# Altium integrated library Texas Instruments Power Management PWM Controller.IntLib: 1227 symbols (part 34 of 49)
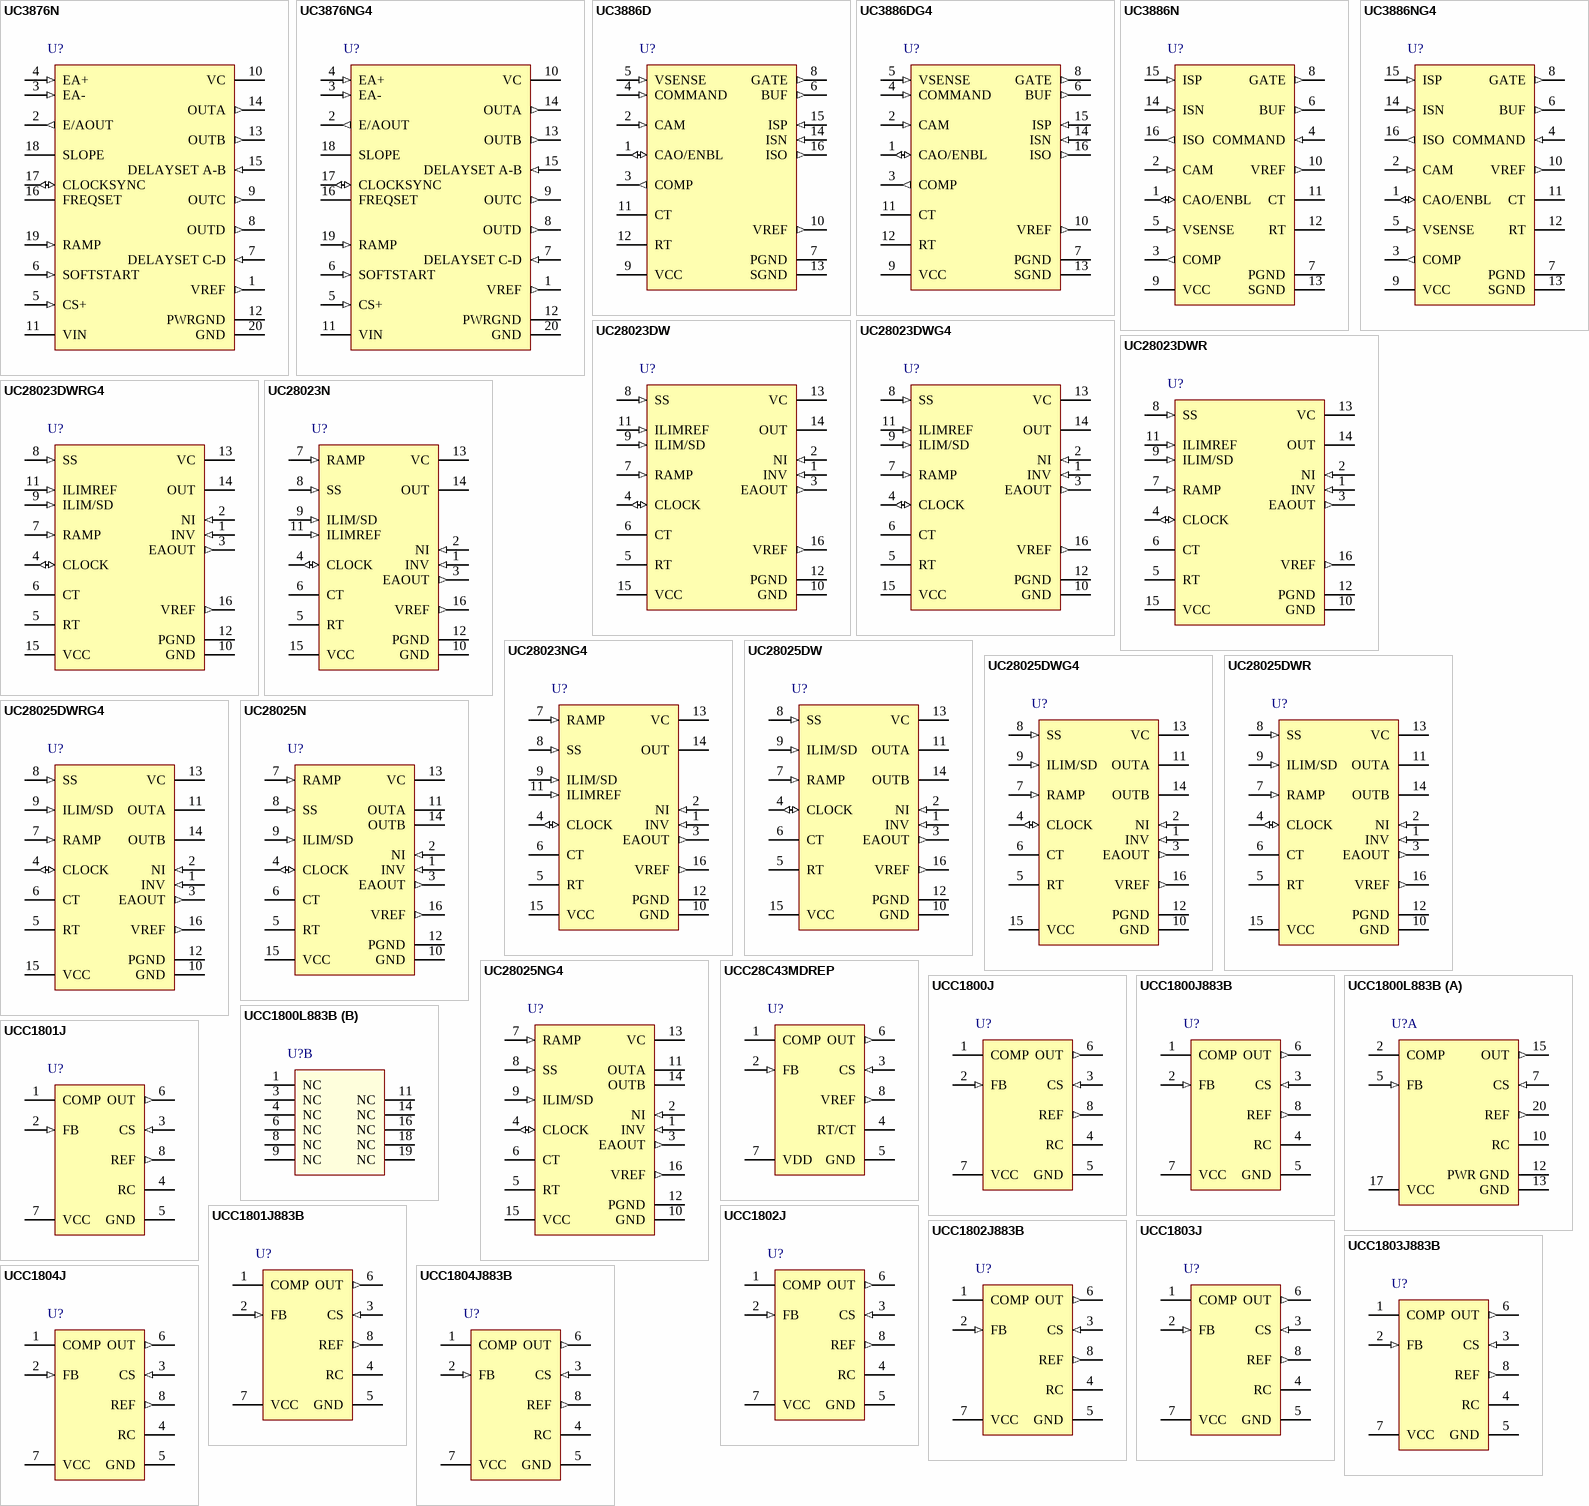
[diagram p76: symbols UC3876N to UCC1804J883B]

## UC3886DG4
designator U?
Average PWM Controller Ic with Current Control, 95 % Duty Cycle, 0 to +70 degC, 16-pin SOIC (D), Green (RoHS & no Sb/Br); PartNumber: UC3886DG4; Manufacturer: Texas Instruments; Duty Cycle(Max)(%): 95; Frequency(Max)(kHz): 400; Rating: Catalog; Regulated Outputs(#): 1; Topology: Boost, Buck, Flyback, Forward; DatasheetVersion: SLUS231; PackageVersion: revM, Jun-2011; PackageReference: D16; PackageDescription: 16-Pin Plastic Small Outline Integrated Circuit, 9.9 x 3.9 mm, Pitch 1.27 mm Pitch; Supplier 1: Digi-Key; Supplier Part Number 1: UC3886DG4-ND; Supplier 2: Newark; Supplier Part Number 2: 70K6033; Supplier 3: Mouser; Supplier Part Number 3: 595-UC3886DG4; Control Method: Current; Eco-Plan: Green (RoHS & no Sb/Br); SubFamily: PWM Controller; UVLO Thresholds On/Off(V): 10.3/10; Mounting Technology: Surface Mount; Code_JEDEC: MS-012AC; ComponentLink1Description: Datasheet; ComponentLink1URL: http://www.ti.com/general/docs/lit/getliterature.tsp?genericPartNumber=UC3886&fileType=pdf
footprint D16_N (SOIC, 16-Leads, Body 9.9x3.9mm, Pitch 1.27mm, IPC Medium Density)
footprint D16_L (SOIC, 16-Leads, Body 9.9x3.9mm, Pitch 1.27mm, IPC High Density)
footprint D16_M (SOIC, 16-Leads, Body 9.9x3.9mm, Pitch 1.27mm, IPC Low Density)
pins: 1 CAO/ENBL (io) "(Current Amplifier Output/Chip Enable) The current loop compensation network is connected between CAO/ENBL and CAM, the inverting input of the current amplifier. The voltage at CAO/ENBL is the input to the PWM comparator and (See Datasheet)", 2 CAM (in) "(Current Amplifier Minus Input) The average load current feedback from ISO is typically applied through a resistor here.", 3 COMP (out) "(Compensation, Voltage Amplifier Output) The system voltage compensation network is applied between COMP and VSENSE. The voltage at COMP is clamped to prevent it from going more than 1V above the COMMAND voltage. This is (See Datasheet)", 4 COMMAND (in) "(Voltage Amplifier Non-Inverting Input) This input to the voltage amplifier is connected to a command voltage, such as the output of a DAC. This voltage sets the switching regulator output voltage.", 5 VSENSE (in) "(Voltage Sense Input) This input is connected to COMP through a feedback network and to the power supply output through a resistor or a divider network.", 6 BUF (out) "(Buffer Output) The voltage on COMMAND pin is buffered and presented to the user here. This voltage is used to provide the operating bias point for the current sense amplifier by connecting a resistor between BUF and ISP. (See Datasheet)", 7 PGND (power) "(Power Ground) The PWM output current returns to ground through this pin. This is separated from SGND to avoid on-chip ground noise generated by the output current.", 8 GATE (out) "(PWM Output) The output is a 1A totem pole driver. Use a series resistor of at least 5 to prevent interaction between the gate impedance and the output driver that might cause excessive overshoot.", 9 VCC (power) "(Positive Supply Voltage) This pin supplies power to the chip and to the gate drive output. Decouple to PGND and separately to SGND for best noise immunity. The reference (VREF), GATE output, oscillator, and amplifiers are (See Datasheet)", 10 VREF (out) "(Voltage Reference Output) An accurate 5V reference as provided at this pin. The output can deliver 2mA to external circuitry, and is internally short circuit current limited.", 11 CT "(Oscillator Timing Capacitor) A capacitor from CT to SGND along with the resistor on RT.", 12 RT "(Oscillator Charging Current) This pin is held at 2V. Resistor RT from this pin to SGND sets the oscillator charging current. Use 5k < RT < 100k.", 13 SGND (power) "(Signal Ground) For better noise immunity, signal ground is provided at this pin.", 14 ISN (in) "(Current Sense Amplifier Inverting Input) A resistor to the low side of the average current sense resistor and a resistor to ISO are applied to this pin to make a differential sensing amplifier.", 15 ISP (in) "(Current Sense Amplifier Non-Inverting Input) A resistor to the high side of the average current sense resistor and a resistor to BUF are connected to this pin to make a differential sensing amplifier.", 16 ISO (out) "(Current Sense Amplifier Output) A feedback resistor to ISN is connected here to make a differential sensing amplifier.The voltage at this pin is equal to (VBUF + A . IAVG . RSENSE) where A is the user determined gain of the (See Datasheet)"

## UC3886N
designator U?
Average PWM Controller Ic with Current Control, 95 % Duty Cycle, 0 to +70 degC, 16-pin PDIP (N), Green (RoHS & no Sb/Br); PartNumber: UC3886N; Manufacturer: Texas Instruments; Duty Cycle(Max)(%): 95; Frequency(Max)(kHz): 400; Rating: Catalog; Regulated Outputs(#): 1; Topology: Boost, Buck, Flyback, Forward; DatasheetVersion: SLUS231; PackageVersion: revE, Dec-2002; PackageReference: N16; PackageDescription: 16-Pin Plastic Dual-In-Line Package, Row Spacing 7.62 mm, Pitch 2.54 mm; Supplier 1: Digi-Key; Supplier Part Number 1: 296-11337-5-ND; Supplier 2: Newark; Supplier Part Number 2: 26C2168; Supplier 3: Mouser; Supplier Part Number 3: 595-UC3886N; Control Method: Current; Eco-Plan: Green (RoHS & no Sb/Br); SubFamily: PWM Controller; UVLO Thresholds On/Off(V): 10.3/10; Mounting Technology: Through Hole; Code_JEDEC: MS-001*; ComponentLink1Description: Datasheet; ComponentLink1URL: http://www.ti.com/general/docs/lit/getliterature.tsp?genericPartNumber=UC3886&fileType=pdf
footprint N16 (DIP, 16-Leads, Row Spacing 7.62mm, Pitch 2.54mm, Body 19.3x6.4mm)
pins: 1 CAO/ENBL (io) "(Current Amplifier Output/Chip Enable) The current loop compensation network is connected between CAO/ENBL and CAM, the inverting input of the current amplifier. The voltage at CAO/ENBL is the input to the PWM comparator and (See Datasheet)", 2 CAM (in) "(Current Amplifier Minus Input) The average load current feedback from ISO is typically applied through a resistor here.", 3 COMP (out) "(Compensation, Voltage Amplifier Output) The system voltage compensation network is applied between COMP and VSENSE. The voltage at COMP is clamped to prevent it from going more than 1V above the COMMAND voltage. This is (See Datasheet)", 4 COMMAND (in) "(Voltage Amplifier Non-Inverting Input) This input to the voltage amplifier is connected to a command voltage, such as the output of a DAC. This voltage sets the switching regulator output voltage.", 5 VSENSE (in) "(Voltage Sense Input) This input is connected to COMP through a feedback network and to the power supply output through a resistor or a divider network.", 6 BUF (out) "The voltage on COMMAND pin is buffered and presented to the user here. This voltage is used to provide the operating bias point for the current sense amplifier by connecting a resistor between BUF and ISP. Decouple BUF with (See Datasheet)", 7 PGND (power) "(Power Ground) The PWM output current returns to ground through this pin. This is separated from SGND to avoid on-chip ground noise generated by the output current.", 8 GATE (out) "(PWM Output) The output is a 1A totem pole driver. Use a series resistor of at least 5 to prevent interaction between the gate impedance and the output driver that might cause excessive overshoot.", 9 VCC (power) "(Positive Supply Voltage) This pin supplies power to the chip and to the gate drive output. Decouple to PGND and separately to SGND for best noise immunity. The reference (VREF), GATE output, oscillator, and amplifiers are (See Datasheet)", 10 VREF (out) "(Voltage Reference Output) An accurate 5V reference as provided at this pin. The output can deliver 2mA to external circuitry, and is internally short circuit current limited.", 11 CT "(Oscillator Timing Capacitor) A capacitor from CT to SGND along with the resistor on RT.", 12 RT "(Oscillator Charging Current) This pin is held at 2V. Resistor RT from this pin to SGND sets the oscillator charging current. Use 5k < RT < 100k.", 13 SGND (power) "(Signal Ground) For better noise immunity, signal ground is provided at this pin.", 14 ISN (in) "(Current Sense Amplifier Inverting Input) A resistor to the low side of the average current sense resistor and a resistor to ISO are applied to this pin to make a differential sensing amplifier.", 15 ISP (in) "(Current Sense Amplifier Non-Inverting Input) A resistor to the high side of the average current sense resistor and a resistor to BUF are connected to this pin to make a differential sensing amplifier.", 16 ISO (out) "(Current Sense Amplifier Output) A feedback resistor to ISN is connected here to make a differential sensing amplifier.The voltage at this pin is equal to (VBUF + A * IAVG * RSENSE) where A is the user determined gain of the (See Datasheet)"

## UC3886NG4
designator U?
Average PWM Controller Ic with Current Control, 95 % Duty Cycle, 0 to +70 degC, 16-pin PDIP (N), Green (RoHS & no Sb/Br); PartNumber: UC3886NG4; Manufacturer: Texas Instruments; Duty Cycle(Max)(%): 95; Frequency(Max)(kHz): 400; Rating: Catalog; Regulated Outputs(#): 1; Topology: Boost, Buck, Flyback, Forward; DatasheetVersion: SLUS231; PackageVersion: revE, Dec-2002; PackageReference: N16; PackageDescription: 16-Pin Plastic Dual-In-Line Package, Row Spacing 7.62 mm, Pitch 2.54 mm; Supplier 1: Digi-Key; Supplier Part Number 1: UC3886NG4-ND; Supplier 2: Newark; Supplier Part Number 2: 54K2362; Supplier 3: Mouser; Supplier Part Number 3: 595-UC3886NG4; Control Method: Current; Eco-Plan: Green (RoHS & no Sb/Br); SubFamily: PWM Controller; UVLO Thresholds On/Off(V): 10.3/10; Mounting Technology: Through Hole; Code_JEDEC: MS-001*; ComponentLink1Description: Datasheet; ComponentLink1URL: http://www.ti.com/general/docs/lit/getliterature.tsp?genericPartNumber=UC3886&fileType=pdf
footprint N16 (DIP, 16-Leads, Row Spacing 7.62mm, Pitch 2.54mm, Body 19.3x6.4mm)
pins: 1 CAO/ENBL (io) "(Current Amplifier Output/Chip Enable) The current loop compensation network is connected between CAO/ENBL and CAM, the inverting input of the current amplifier. The voltage at CAO/ENBL is the input to the PWM comparator and (See Datasheet)", 2 CAM (in) "(Current Amplifier Minus Input) The average load current feedback from ISO is typically applied through a resistor here.", 3 COMP (out) "(Compensation, Voltage Amplifier Output) The system voltage compensation network is applied between COMP and VSENSE. The voltage at COMP is clamped to prevent it from going more than 1V above the COMMAND voltage. This is (See Datasheet)", 4 COMMAND (in) "(Voltage Amplifier Non-Inverting Input) This input to the voltage amplifier is connected to a command voltage, such as the output of a DAC. This voltage sets the switching regulator output voltage.", 5 VSENSE (in) "(Voltage Sense Input) This input is connected to COMP through a feedback network and to the power supply output through a resistor or a divider network.", 6 BUF (out) "The voltage on COMMAND pin is buffered and presented to the user here. This voltage is used to provide the operating bias point for the current sense amplifier by connecting a resistor between BUF and ISP. Decouple BUF with (See Datasheet)", 7 PGND (power) "(Power Ground) The PWM output current returns to ground through this pin. This is separated from SGND to avoid on-chip ground noise generated by the output current.", 8 GATE (out) "(PWM Output) The output is a 1A totem pole driver. Use a series resistor of at least 5 to prevent interaction between the gate impedance and the output driver that might cause excessive overshoot.", 9 VCC (power) "(Positive Supply Voltage) This pin supplies power to the chip and to the gate drive output. Decouple to PGND and separately to SGND for best noise immunity. The reference (VREF), GATE output, oscillator, and amplifiers are (See Datasheet)", 10 VREF (out) "(Voltage Reference Output) An accurate 5V reference as provided at this pin. The output can deliver 2mA to external circuitry, and is internally short circuit current limited.", 11 CT "(Oscillator Timing Capacitor) A capacitor from CT to SGND along with the resistor on RT.", 12 RT "(Oscillator Charging Current) This pin is held at 2V. Resistor RT from this pin to SGND sets the oscillator charging current. Use 5k < RT < 100k.", 13 SGND (power) "(Signal Ground) For better noise immunity, signal ground is provided at this pin.", 14 ISN (in) "(Current Sense Amplifier Inverting Input) A resistor to the low side of the average current sense resistor and a resistor to ISO are applied to this pin to make a differential sensing amplifier.", 15 ISP (in) "(Current Sense Amplifier Non-Inverting Input) A resistor to the high side of the average current sense resistor and a resistor to BUF are connected to this pin to make a differential sensing amplifier.", 16 ISO (out) "(Current Sense Amplifier Output) A feedback resistor to ISN is connected here to make a differential sensing amplifier.The voltage at this pin is equal to (VBUF + A * IAVG * RSENSE) where A is the user determined gain of the (See Datasheet)"

## UC28023DW
designator U?
Economy High-Speed PWM Controller with Current Control, 100 % Duty Cycle, -40 to +105 degC, 16-pin SOIC (DW), Green (RoHS & no Sb/Br); PartNumber: UC28023DW; Manufacturer: Texas Instruments; Duty Cycle(Max)(%): 100; Frequency(Max)(kHz): 1000; Rating: Catalog; Regulated Outputs(#): 1; Topology: Boost, Flyback, Forward, Full-Bridge, Half-Bridge, Push-Pull; UVLO Thresholds On/Off(V): 9.2/8.4; DatasheetVersion: SLUS557F; PackageVersion: revG, Jan-2011; PackageReference: DW16; PackageDescription: 16-Pin Small Outline Integrated Circuit, 10.3 x 7.5 mm, Pitch 1.27 mm Pitch; Supplier 1: Digi-Key; Supplier Part Number 1: 296-15060-5-ND; Supplier 2: Newark; Supplier Part Number 2: 61H5610; Supplier 3: Mouser; Supplier Part Number 3: 595-UC28023DW; Control Method: Current; Eco-Plan: Green (RoHS & no Sb/Br); SubFamily: PWM Controller; Mounting Technology: Surface Mount; Code_JEDEC: MS-013-AA; ComponentLink1Description: Datasheet; ComponentLink1URL: http://www.ti.com/general/docs/lit/getliterature.tsp?genericPartNumber=UC28023&fileType=pdf
footprint DW16_N (SOIC, 16-Leads, Body 10.3x7.5mm, Pitch 1.27mm, IPC Medium Density)
footprint DW16_L (SOIC, 16-Leads, Body 10.3x7.5mm, Pitch 1.27mm, IPC High Density)
footprint DW16_M (SOIC, 16-Leads, Body 10.3x7.5mm, Pitch 1.27mm, IPC Low Density)
pins: 1 INV (in) "Inverting input to the error amplifier", 2 NI (in) "Non-inverting input to the error amplifier", 3 EAOUT (out) "Output of the error amplifier for compensation", 4 CLOCK (io) "Output of the internal oscillator", 5 RT "Timing resistor connection pin for oscillator frequency programming", 6 CT "Timing capacitor connection pin for oscillator frequency programming. Thetiming capacitor should be connected to the device ground using minimal trace length.", 7 RAMP (in) "Non-inverting input to the PWM comparator with 1.25-V internal input offset. In voltage mode operation this serves as the input voltage feed-forward function by using the CT ramp. In peak current mode operation, this serves (See Datasheet)", 8 SS (in) "Soft-start input pin.", 9 ILIM/SD (in) "Input to the current limit comparator and the shutdown comparator.", 10 GND (power) "Analog ground return pin.", 11 ILIMREF (in) "Pin to set the current limit threshold externally.", 12 PGND (power) "Ground return pin for the output driver stage", 13 VC (power) "Power supply pin for the output stage. This pin should be bypassed with a 0.1-uF monolithic ceramic low ESL capacitor with minimal trace lengths.", 14 OUT (hiz) "High current totem pole output of the on-chip drive stage.", 15 VCC (power) "Power supply pin for the device. This pin should be bypassed with a 0.1-uF monolithic ceramic low ESL capacitor with minimal trace lengths", 16 VREF (out) "5.1--V reference. For stability, the reference should be bypassed with a 0.1-uFmonolithic ceramic low ESL capacitor and minimal trace length to the ground plane."

## UC28023DWG4
designator U?
Economy High-Speed PWM Controller with Current Control, 100 % Duty Cycle, -40 to +105 degC, 16-pin SOIC (DW), Green (RoHS & no Sb/Br); PartNumber: UC28023DWG4; Manufacturer: Texas Instruments; Duty Cycle(Max)(%): 100; Frequency(Max)(kHz): 1000; Rating: Catalog; Regulated Outputs(#): 1; Topology: Boost, Flyback, Forward, Full-Bridge, Half-Bridge, Push-Pull; UVLO Thresholds On/Off(V): 9.2/8.4; DatasheetVersion: SLUS557F; PackageVersion: revG, Jan-2011; PackageReference: DW16; PackageDescription: 16-Pin Small Outline Integrated Circuit, 10.3 x 7.5 mm, Pitch 1.27 mm Pitch; Supplier 1: Digi-Key; Supplier Part Number 1: UC28023DWG4-ND; Supplier 2: Newark; Supplier Part Number 2: 63K6668; Supplier 3: Mouser; Supplier Part Number 3: 595-UC28023DWG4; Control Method: Current; Eco-Plan: Green (RoHS & no Sb/Br); SubFamily: PWM Controller; Mounting Technology: Surface Mount; Code_JEDEC: MS-013-AA; ComponentLink1Description: Datasheet; ComponentLink1URL: http://www.ti.com/general/docs/lit/getliterature.tsp?genericPartNumber=UC28023&fileType=pdf
footprint DW16_N (SOIC, 16-Leads, Body 10.3x7.5mm, Pitch 1.27mm, IPC Medium Density)
footprint DW16_L (SOIC, 16-Leads, Body 10.3x7.5mm, Pitch 1.27mm, IPC High Density)
footprint DW16_M (SOIC, 16-Leads, Body 10.3x7.5mm, Pitch 1.27mm, IPC Low Density)
pins: 1 INV (in) "Inverting input to the error amplifier", 2 NI (in) "Non-inverting input to the error amplifier", 3 EAOUT (out) "Output of the error amplifier for compensation", 4 CLOCK (io) "Output of the internal oscillator", 5 RT "Timing resistor connection pin for oscillator frequency programming", 6 CT "Timing capacitor connection pin for oscillator frequency programming. Thetiming capacitor should be connected to the device ground using minimal trace length.", 7 RAMP (in) "Non-inverting input to the PWM comparator with 1.25-V internal input offset. In voltage mode operation this serves as the input voltage feed-forward function by using the CT ramp. In peak current mode operation, this serves (See Datasheet)", 8 SS (in) "Soft-start input pin.", 9 ILIM/SD (in) "Input to the current limit comparator and the shutdown comparator.", 10 GND (power) "Analog ground return pin.", 11 ILIMREF (in) "Pin to set the current limit threshold externally.", 12 PGND (power) "Ground return pin for the output driver stage", 13 VC (power) "Power supply pin for the output stage. This pin should be bypassed with a 0.1-uF monolithic ceramic low ESL capacitor with minimal trace lengths.", 14 OUT (hiz) "High current totem pole output of the on-chip drive stage.", 15 VCC (power) "Power supply pin for the device. This pin should be bypassed with a 0.1-uF monolithic ceramic low ESL capacitor with minimal trace lengths", 16 VREF (out) "5.1--V reference. For stability, the reference should be bypassed with a 0.1-uFmonolithic ceramic low ESL capacitor and minimal trace length to the ground plane."

## UC28023DWR
designator U?
Economy High-Speed PWM Controller with Current Control, 100 % Duty Cycle, -40 to +105 degC, 16-pin SOIC (DW), Green (RoHS & no Sb/Br); PartNumber: UC28023DWR; Manufacturer: Texas Instruments; Duty Cycle(Max)(%): 100; Frequency(Max)(kHz): 1000; Rating: Catalog; Regulated Outputs(#): 1; Topology: Boost, Flyback, Forward, Full-Bridge, Half-Bridge, Push-Pull; UVLO Thresholds On/Off(V): 9.2/8.4; DatasheetVersion: SLUS557F; PackageVersion: revG, Jan-2011; PackageReference: DW16; PackageDescription: 16-Pin Small Outline Integrated Circuit, 10.3 x 7.5 mm, Pitch 1.27 mm Pitch; Supplier 1: Digi-Key; Supplier Part Number 1: UC28023DWR-ND; Supplier 2: Newark; Supplier Part Number 2: 61H5611; Supplier 3: Mouser; Supplier Part Number 3: 595-UC28023DWR; Control Method: Current; Eco-Plan: Green (RoHS & no Sb/Br); SubFamily: PWM Controller; Mounting Technology: Surface Mount; Code_JEDEC: MS-013-AA; ComponentLink1Description: Datasheet; ComponentLink1URL: http://www.ti.com/general/docs/lit/getliterature.tsp?genericPartNumber=UC28023&fileType=pdf
footprint DW16_N (SOIC, 16-Leads, Body 10.3x7.5mm, Pitch 1.27mm, IPC Medium Density)
footprint DW16_L (SOIC, 16-Leads, Body 10.3x7.5mm, Pitch 1.27mm, IPC High Density)
footprint DW16_M (SOIC, 16-Leads, Body 10.3x7.5mm, Pitch 1.27mm, IPC Low Density)
pins: 1 INV (in) "Inverting input to the error amplifier", 2 NI (in) "Non-inverting input to the error amplifier", 3 EAOUT (out) "Output of the error amplifier for compensation", 4 CLOCK (io) "Output of the internal oscillator", 5 RT "Timing resistor connection pin for oscillator frequency programming", 6 CT "Timing capacitor connection pin for oscillator frequency programming. Thetiming capacitor should be connected to the device ground using minimal trace length.", 7 RAMP (in) "Non-inverting input to the PWM comparator with 1.25-V internal input offset. In voltage mode operation this serves as the input voltage feed-forward function by using the CT ramp. In peak current mode operation, this serves (See Datasheet)", 8 SS (in) "Soft-start input pin.", 9 ILIM/SD (in) "Input to the current limit comparator and the shutdown comparator.", 10 GND (power) "Analog ground return pin.", 11 ILIMREF (in) "Pin to set the current limit threshold externally.", 12 PGND (power) "Ground return pin for the output driver stage", 13 VC (power) "Power supply pin for the output stage. This pin should be bypassed with a 0.1-uF monolithic ceramic low ESL capacitor with minimal trace lengths.", 14 OUT (hiz) "High current totem pole output of the on-chip drive stage.", 15 VCC (power) "Power supply pin for the device. This pin should be bypassed with a 0.1-uF monolithic ceramic low ESL capacitor with minimal trace lengths", 16 VREF (out) "5.1--V reference. For stability, the reference should be bypassed with a 0.1-uFmonolithic ceramic low ESL capacitor and minimal trace length to the ground plane."

## UC28023DWRG4
designator U?
Economy High-Speed PWM Controller with Current Control, 100 % Duty Cycle, -40 to +105 degC, 16-pin SOIC (DW), Green (RoHS & no Sb/Br); PartNumber: UC28023DWRG4; Manufacturer: Texas Instruments; Duty Cycle(Max)(%): 100; Frequency(Max)(kHz): 1000; Rating: Catalog; Regulated Outputs(#): 1; Topology: Boost, Flyback, Forward, Full-Bridge, Half-Bridge, Push-Pull; UVLO Thresholds On/Off(V): 9.2/8.4; DatasheetVersion: SLUS557F; PackageVersion: revG, Jan-2011; PackageReference: DW16; PackageDescription: 16-Pin Small Outline Integrated Circuit, 10.3 x 7.5 mm, Pitch 1.27 mm Pitch; Supplier 1: Digi-Key; Supplier Part Number 1: UC28023DWRG4-ND; Supplier 2: Newark; Supplier Part Number 2: 70K5962; Supplier 3: Mouser; Supplier Part Number 3: 595-UC28023DWRG4; Control Method: Current; Eco-Plan: Green (RoHS & no Sb/Br); SubFamily: PWM Controller; Mounting Technology: Surface Mount; Code_JEDEC: MS-013-AA; ComponentLink1Description: Datasheet; ComponentLink1URL: http://www.ti.com/general/docs/lit/getliterature.tsp?genericPartNumber=UC28023&fileType=pdf
footprint DW16_N (SOIC, 16-Leads, Body 10.3x7.5mm, Pitch 1.27mm, IPC Medium Density)
footprint DW16_L (SOIC, 16-Leads, Body 10.3x7.5mm, Pitch 1.27mm, IPC High Density)
footprint DW16_M (SOIC, 16-Leads, Body 10.3x7.5mm, Pitch 1.27mm, IPC Low Density)
pins: 1 INV (in) "Inverting input to the error amplifier", 2 NI (in) "Non-inverting input to the error amplifier", 3 EAOUT (out) "Output of the error amplifier for compensation", 4 CLOCK (io) "Output of the internal oscillator", 5 RT "Timing resistor connection pin for oscillator frequency programming", 6 CT "Timing capacitor connection pin for oscillator frequency programming. Thetiming capacitor should be connected to the device ground using minimal trace length.", 7 RAMP (in) "Non-inverting input to the PWM comparator with 1.25-V internal input offset. In voltage mode operation this serves as the input voltage feed-forward function by using the CT ramp. In peak current mode operation, this serves (See Datasheet)", 8 SS (in) "Soft-start input pin.", 9 ILIM/SD (in) "Input to the current limit comparator and the shutdown comparator.", 10 GND (power) "Analog ground return pin.", 11 ILIMREF (in) "Pin to set the current limit threshold externally.", 12 PGND (power) "Ground return pin for the output driver stage", 13 VC (power) "Power supply pin for the output stage. This pin should be bypassed with a 0.1-uF monolithic ceramic low ESL capacitor with minimal trace lengths.", 14 OUT (hiz) "High current totem pole output of the on-chip drive stage.", 15 VCC (power) "Power supply pin for the device. This pin should be bypassed with a 0.1-uF monolithic ceramic low ESL capacitor with minimal trace lengths", 16 VREF (out) "5.1--V reference. For stability, the reference should be bypassed with a 0.1-uFmonolithic ceramic low ESL capacitor and minimal trace length to the ground plane."

## UC28023N
designator U?
Economy High-Speed PWM Controller with Current Control, 100 % Duty Cycle, -40 to +105 degC, 16-pin PDIP (N), Green (RoHS & no Sb/Br); PartNumber: UC28023N; Manufacturer: Texas Instruments; Duty Cycle(Max)(%): 100; Frequency(Max)(kHz): 1000; Rating: Catalog; Regulated Outputs(#): 1; Topology: Boost, Flyback, Forward, Full-Bridge, Half-Bridge, Push-Pull; UVLO Thresholds On/Off(V): 9.2/8.4; DatasheetVersion: SLUS557F; PackageVersion: revE, Dec-2002; PackageReference: N16; PackageDescription: 16-Pin Plastic Dual-In-Line Package, Row Spacing 7.62 mm, Pitch 2.54 mm; Supplier 1: Digi-Key; Supplier Part Number 1: 296-15061-5-ND; Supplier 2: Newark; Supplier Part Number 2: 61H5612; Supplier 3: Mouser; Supplier Part Number 3: 595-UC28023N; Control Method: Current; Eco-Plan: Green (RoHS & no Sb/Br); SubFamily: PWM Controller; Mounting Technology: Through Hole; Code_JEDEC: MS-001*; ComponentLink1Description: Datasheet; ComponentLink1URL: http://www.ti.com/general/docs/lit/getliterature.tsp?genericPartNumber=UC28023&fileType=pdf
footprint N16 (DIP, 16-Leads, Row Spacing 7.62mm, Pitch 2.54mm, Body 19.3x6.4mm)
pins: 1 INV (in) "Inverting input to the error amplifier.", 2 NI (in) "Non-inverting input to the error amplifier.", 3 EAOUT (out) "Output of the error amplifier for compensation.", 4 CLOCK (io) "Output of the internal oscillator.", 5 RT "Timing resistor connection pin for oscillator frequency programming.", 6 CT "Timing capacitor connection pin for oscillator frequency programming. The timing capacitor should be connected to the device ground using minimal trace length.", 7 RAMP (in) "Non-inverting input to the PWM comparator with 1.25-V internal input offset. In voltage mode operation this serves as the input voltage feed-forward function by using the CT ramp. In peak current mode operation, this serves (See Datasheet)", 8 SS (in) "Soft-start input pin.", 9 ILIM/SD (in) "Input to the current limit comparator and the shutdown comparator.", 10 GND (power) "Analog ground return pin.", 11 ILIMREF (in) "Pin to set the current limit threshold externally.", 12 PGND (power) "Ground return pin for the output driver stage.", 13 VC (power) "Power supply pin for the output stage. This pin should be bypassed with a 0.1-uF monolithic ceramic low ESL capacitor with minimal trace lengths.", 14 OUT (hiz) "High current totem pole output of the on-chip drive stage.", 15 VCC (power) "Power supply pin for the device. This pin should be bypassed with a 0.1-uF monolithic ceramic low ESL capacitor with minimal trace lengths.", 16 VREF (out) "5.1--V reference. For stability, the reference should be bypassed with a 0.1-uF monolithic ceramic low ESL capacitor and minimal trace length to the ground plane."

## UC28023NG4
designator U?
Economy High-Speed PWM Controller with Current Control, 100 % Duty Cycle, -40 to +105 degC, 16-pin PDIP (N), Green (RoHS & no Sb/Br); PartNumber: UC28023NG4; Manufacturer: Texas Instruments; Duty Cycle(Max)(%): 100; Frequency(Max)(kHz): 1000; Rating: Catalog; Regulated Outputs(#): 1; Topology: Boost, Flyback, Forward, Full-Bridge, Half-Bridge, Push-Pull; UVLO Thresholds On/Off(V): 9.2/8.4; DatasheetVersion: SLUS557F; PackageVersion: revE, Dec-2002; PackageReference: N16; PackageDescription: 16-Pin Plastic Dual-In-Line Package, Row Spacing 7.62 mm, Pitch 2.54 mm; Supplier 1: Digi-Key; Supplier Part Number 1: UC28023NG4-ND; Supplier 2: Newark; Supplier Part Number 2: 54K2267; Supplier 3: Mouser; Supplier Part Number 3: 595-UC28023NG4; Control Method: Current; Eco-Plan: Green (RoHS & no Sb/Br); SubFamily: PWM Controller; Mounting Technology: Through Hole; Code_JEDEC: MS-001*; ComponentLink1Description: Datasheet; ComponentLink1URL: http://www.ti.com/general/docs/lit/getliterature.tsp?genericPartNumber=UC28023&fileType=pdf
footprint N16 (DIP, 16-Leads, Row Spacing 7.62mm, Pitch 2.54mm, Body 19.3x6.4mm)
pins: 1 INV (in) "Inverting input to the error amplifier.", 2 NI (in) "Non-inverting input to the error amplifier.", 3 EAOUT (out) "Output of the error amplifier for compensation.", 4 CLOCK (io) "Output of the internal oscillator.", 5 RT "Timing resistor connection pin for oscillator frequency programming.", 6 CT "Timing capacitor connection pin for oscillator frequency programming. The timing capacitor should be connected to the device ground using minimal trace length.", 7 RAMP (in) "Non-inverting input to the PWM comparator with 1.25-V internal input offset. In voltage mode operation this serves as the input voltage feed-forward function by using the CT ramp. In peak current mode operation, this serves (See Datasheet)", 8 SS (in) "Soft-start input pin.", 9 ILIM/SD (in) "Input to the current limit comparator and the shutdown comparator.", 10 GND (power) "Analog ground return pin.", 11 ILIMREF (in) "Pin to set the current limit threshold externally.", 12 PGND (power) "Ground return pin for the output driver stage.", 13 VC (power) "Power supply pin for the output stage. This pin should be bypassed with a 0.1-uF monolithic ceramic low ESL capacitor with minimal trace lengths.", 14 OUT (hiz) "High current totem pole output of the on-chip drive stage.", 15 VCC (power) "Power supply pin for the device. This pin should be bypassed with a 0.1-uF monolithic ceramic low ESL capacitor with minimal trace lengths.", 16 VREF (out) "5.1--V reference. For stability, the reference should be bypassed with a 0.1-uF monolithic ceramic low ESL capacitor and minimal trace length to the ground plane."

## UC28025DW
designator U?
Economy High-Speed PWM Controller with Current Control, 100 % Duty Cycle, -40 to +105 degC, 16-pin SOIC (DW), Green (RoHS & no Sb/Br); PartNumber: UC28025DW; Manufacturer: Texas Instruments; Duty Cycle(Max)(%): 100; Frequency(Max)(kHz): 1000; Rating: Catalog; Regulated Outputs(#): 2; Topology: Boost, Flyback, Forward, Full-Bridge, Half-Bridge, Push-Pull; UVLO Thresholds On/Off(V): 9.2/8.4; DatasheetVersion: SLUS557F; PackageVersion: revG, Jan-2011; PackageReference: DW16; PackageDescription: 16-Pin Small Outline Integrated Circuit, 10.3 x 7.5 mm, Pitch 1.27 mm Pitch; Supplier 1: Digi-Key; Supplier Part Number 1: 296-15062-5-ND; Supplier 2: Newark; Supplier Part Number 2: 61H5613; Supplier 3: Mouser; Supplier Part Number 3: 595-UC28025DW; Control Method: Current; Eco-Plan: Green (RoHS & no Sb/Br); SubFamily: PWM Controller; Mounting Technology: Surface Mount; Code_JEDEC: MS-013-AA; ComponentLink1Description: Datasheet; ComponentLink1URL: http://www.ti.com/general/docs/lit/getliterature.tsp?genericPartNumber=UC28025&fileType=pdf
footprint DW16_N (SOIC, 16-Leads, Body 10.3x7.5mm, Pitch 1.27mm, IPC Medium Density)
footprint DW16_L (SOIC, 16-Leads, Body 10.3x7.5mm, Pitch 1.27mm, IPC High Density)
footprint DW16_M (SOIC, 16-Leads, Body 10.3x7.5mm, Pitch 1.27mm, IPC Low Density)
pins: 1 INV (in) "Inverting input to the error amplifier", 2 NI (in) "Non-inverting input to the error amplifier", 3 EAOUT (out) "Output of the error amplifier for compensation", 4 CLOCK (io) "Output of the internal oscillator", 5 RT "Timing resistor connection pin for oscillator frequency programming", 6 CT "Timing capacitor connection pin for oscillator frequency programming. Thetiming capacitor should be connected to the device ground using minimal trace length.", 7 RAMP (in) "Non-inverting input to the PWM comparator with 1.25-V internal input offset. In voltage mode operation this serves as the input voltage feed-forward function by using the CT ramp. In peak current mode operation, this serves (See Datasheet)", 8 SS (in) "Soft-start input pin.", 9 ILIM/SD (in) "Input to the current limit comparator and the shutdown comparator.", 10 GND (power) "Analog ground return pin.", 11 OUTA (hiz) "High current totem pole output A of the on-chip drive stage.", 12 PGND (power) "Ground return pin for the output driver stage", 13 VC (power) "Power supply pin for the output stage. This pin should be bypassed with a 0.1-uF monolithic ceramic low ESL capacitor with minimal trace lengths.", 14 OUTB (hiz) "High current totem pole output B of the on-chip drive stage.", 15 VCC (power) "Power supply pin for the device. This pin should be bypassed with a 0.1-uF monolithic ceramic low ESL capacitor with minimal trace lengths", 16 VREF (out) "5.1--V reference. For stability, the reference should be bypassed with a 0.1-uFmonolithic ceramic low ESL capacitor and minimal trace length to the ground plane."

## UC28025DWG4
designator U?
Economy High-Speed PWM Controller with Current Control, 100 % Duty Cycle, -40 to +105 degC, 16-pin SOIC (DW), Green (RoHS & no Sb/Br); PartNumber: UC28025DWG4; Manufacturer: Texas Instruments; Duty Cycle(Max)(%): 100; Frequency(Max)(kHz): 1000; Rating: Catalog; Regulated Outputs(#): 2; Topology: Boost, Flyback, Forward, Full-Bridge, Half-Bridge, Push-Pull; UVLO Thresholds On/Off(V): 9.2/8.4; DatasheetVersion: SLUS557F; PackageVersion: revG, Jan-2011; PackageReference: DW16; PackageDescription: 16-Pin Small Outline Integrated Circuit, 10.3 x 7.5 mm, Pitch 1.27 mm Pitch; Supplier 1: Digi-Key; Supplier Part Number 1: UC28025DWG4-ND; Supplier 2: Farnell; Supplier Part Number 2: 1207368; Supplier 3: Newark; Supplier Part Number 3: 24M8882; Supplier 4: Newark; Supplier Part Number 4: 61K1985; Supplier 5: Mouser; Supplier Part Number 5: 595-UC28025DWG4; Control Method: Current; Eco-Plan: Green (RoHS & no Sb/Br); SubFamily: PWM Controller; Mounting Technology: Surface Mount; Code_JEDEC: MS-013-AA; ComponentLink1Description: Datasheet; ComponentLink1URL: http://www.ti.com/general/docs/lit/getliterature.tsp?genericPartNumber=UC28025&fileType=pdf
footprint DW16_N (SOIC, 16-Leads, Body 10.3x7.5mm, Pitch 1.27mm, IPC Medium Density)
footprint DW16_L (SOIC, 16-Leads, Body 10.3x7.5mm, Pitch 1.27mm, IPC High Density)
footprint DW16_M (SOIC, 16-Leads, Body 10.3x7.5mm, Pitch 1.27mm, IPC Low Density)
pins: 1 INV (in) "Inverting input to the error amplifier", 2 NI (in) "Non-inverting input to the error amplifier", 3 EAOUT (out) "Output of the error amplifier for compensation", 4 CLOCK (io) "Output of the internal oscillator", 5 RT "Timing resistor connection pin for oscillator frequency programming", 6 CT "Timing capacitor connection pin for oscillator frequency programming. Thetiming capacitor should be connected to the device ground using minimal trace length.", 7 RAMP (in) "Non-inverting input to the PWM comparator with 1.25-V internal input offset. In voltage mode operation this serves as the input voltage feed-forward function by using the CT ramp. In peak current mode operation, this serves (See Datasheet)", 8 SS (in) "Soft-start input pin.", 9 ILIM/SD (in) "Input to the current limit comparator and the shutdown comparator.", 10 GND (power) "Analog ground return pin.", 11 OUTA (hiz) "High current totem pole output A of the on-chip drive stage.", 12 PGND (power) "Ground return pin for the output driver stage", 13 VC (power) "Power supply pin for the output stage. This pin should be bypassed with a 0.1-uF monolithic ceramic low ESL capacitor with minimal trace lengths.", 14 OUTB (hiz) "High current totem pole output B of the on-chip drive stage.", 15 VCC (power) "Power supply pin for the device. This pin should be bypassed with a 0.1-uF monolithic ceramic low ESL capacitor with minimal trace lengths", 16 VREF (out) "5.1--V reference. For stability, the reference should be bypassed with a 0.1-uFmonolithic ceramic low ESL capacitor and minimal trace length to the ground plane."

## UC28025DWR
designator U?
Economy High-Speed PWM Controller with Current Control, 100 % Duty Cycle, -40 to +105 degC, 16-pin SOIC (DW), Green (RoHS & no Sb/Br); PartNumber: UC28025DWR; Manufacturer: Texas Instruments; Duty Cycle(Max)(%): 100; Frequency(Max)(kHz): 1000; Rating: Catalog; Regulated Outputs(#): 2; Topology: Boost, Flyback, Forward, Full-Bridge, Half-Bridge, Push-Pull; UVLO Thresholds On/Off(V): 9.2/8.4; DatasheetVersion: SLUS557F; PackageVersion: revG, Jan-2011; PackageReference: DW16; PackageDescription: 16-Pin Small Outline Integrated Circuit, 10.3 x 7.5 mm, Pitch 1.27 mm Pitch; Supplier 1: Digi-Key; Supplier Part Number 1: UC28025DWR-ND; Supplier 2: Newark; Supplier Part Number 2: 61H5614; Supplier 3: Mouser; Supplier Part Number 3: 595-UC28025DWR; Control Method: Current; Eco-Plan: Green (RoHS & no Sb/Br); SubFamily: PWM Controller; Mounting Technology: Surface Mount; Code_JEDEC: MS-013-AA; ComponentLink1Description: Datasheet; ComponentLink1URL: http://www.ti.com/general/docs/lit/getliterature.tsp?genericPartNumber=UC28025&fileType=pdf
footprint DW16_N (SOIC, 16-Leads, Body 10.3x7.5mm, Pitch 1.27mm, IPC Medium Density)
footprint DW16_L (SOIC, 16-Leads, Body 10.3x7.5mm, Pitch 1.27mm, IPC High Density)
footprint DW16_M (SOIC, 16-Leads, Body 10.3x7.5mm, Pitch 1.27mm, IPC Low Density)
pins: 1 INV (in) "Inverting input to the error amplifier", 2 NI (in) "Non-inverting input to the error amplifier", 3 EAOUT (out) "Output of the error amplifier for compensation", 4 CLOCK (io) "Output of the internal oscillator", 5 RT "Timing resistor connection pin for oscillator frequency programming", 6 CT "Timing capacitor connection pin for oscillator frequency programming. Thetiming capacitor should be connected to the device ground using minimal trace length.", 7 RAMP (in) "Non-inverting input to the PWM comparator with 1.25-V internal input offset. In voltage mode operation this serves as the input voltage feed-forward function by using the CT ramp. In peak current mode operation, this serves (See Datasheet)", 8 SS (in) "Soft-start input pin.", 9 ILIM/SD (in) "Input to the current limit comparator and the shutdown comparator.", 10 GND (power) "Analog ground return pin.", 11 OUTA (hiz) "High current totem pole output A of the on-chip drive stage.", 12 PGND (power) "Ground return pin for the output driver stage", 13 VC (power) "Power supply pin for the output stage. This pin should be bypassed with a 0.1-uF monolithic ceramic low ESL capacitor with minimal trace lengths.", 14 OUTB (hiz) "High current totem pole output B of the on-chip drive stage.", 15 VCC (power) "Power supply pin for the device. This pin should be bypassed with a 0.1-uF monolithic ceramic low ESL capacitor with minimal trace lengths", 16 VREF (out) "5.1--V reference. For stability, the reference should be bypassed with a 0.1-uFmonolithic ceramic low ESL capacitor and minimal trace length to the ground plane."

## UC28025DWRG4
designator U?
Economy High-Speed PWM Controller with Current Control, 100 % Duty Cycle, -40 to +105 degC, 16-pin SOIC (DW), Green (RoHS & no Sb/Br); PartNumber: UC28025DWRG4; Manufacturer: Texas Instruments; Duty Cycle(Max)(%): 100; Frequency(Max)(kHz): 1000; Rating: Catalog; Regulated Outputs(#): 2; Topology: Boost, Flyback, Forward, Full-Bridge, Half-Bridge, Push-Pull; UVLO Thresholds On/Off(V): 9.2/8.4; DatasheetVersion: SLUS557F; PackageVersion: revG, Jan-2011; PackageReference: DW16; PackageDescription: 16-Pin Small Outline Integrated Circuit, 10.3 x 7.5 mm, Pitch 1.27 mm Pitch; Supplier 1: Digi-Key; Supplier Part Number 1: UC28025DWRG4-ND; Supplier 2: Newark; Supplier Part Number 2: 66K4896; Supplier 3: Mouser; Supplier Part Number 3: 595-UC28025DWRG4; Control Method: Current; Eco-Plan: Green (RoHS & no Sb/Br); SubFamily: PWM Controller; Mounting Technology: Surface Mount; Code_JEDEC: MS-013-AA; ComponentLink1Description: Datasheet; ComponentLink1URL: http://www.ti.com/general/docs/lit/getliterature.tsp?genericPartNumber=UC28025&fileType=pdf
footprint DW16_N (SOIC, 16-Leads, Body 10.3x7.5mm, Pitch 1.27mm, IPC Medium Density)
footprint DW16_L (SOIC, 16-Leads, Body 10.3x7.5mm, Pitch 1.27mm, IPC High Density)
footprint DW16_M (SOIC, 16-Leads, Body 10.3x7.5mm, Pitch 1.27mm, IPC Low Density)
pins: 1 INV (in) "Inverting input to the error amplifier", 2 NI (in) "Non-inverting input to the error amplifier", 3 EAOUT (out) "Output of the error amplifier for compensation", 4 CLOCK (io) "Output of the internal oscillator", 5 RT "Timing resistor connection pin for oscillator frequency programming", 6 CT "Timing capacitor connection pin for oscillator frequency programming. Thetiming capacitor should be connected to the device ground using minimal trace length.", 7 RAMP (in) "Non-inverting input to the PWM comparator with 1.25-V internal input offset. In voltage mode operation this serves as the input voltage feed-forward function by using the CT ramp. In peak current mode operation, this serves (See Datasheet)", 8 SS (in) "Soft-start input pin.", 9 ILIM/SD (in) "Input to the current limit comparator and the shutdown comparator.", 10 GND (power) "Analog ground return pin.", 11 OUTA (hiz) "High current totem pole output A of the on-chip drive stage.", 12 PGND (power) "Ground return pin for the output driver stage", 13 VC (power) "Power supply pin for the output stage. This pin should be bypassed with a 0.1-uF monolithic ceramic low ESL capacitor with minimal trace lengths.", 14 OUTB (hiz) "High current totem pole output B of the on-chip drive stage.", 15 VCC (power) "Power supply pin for the device. This pin should be bypassed with a 0.1-uF monolithic ceramic low ESL capacitor with minimal trace lengths", 16 VREF (out) "5.1--V reference. For stability, the reference should be bypassed with a 0.1-uFmonolithic ceramic low ESL capacitor and minimal trace length to the ground plane."

## UC28025N
designator U?
Economy High-Speed PWM Controller with Current Control, 100 % Duty Cycle, -40 to +105 degC, 16-pin PDIP (N), Green (RoHS & no Sb/Br); PartNumber: UC28025N; Manufacturer: Texas Instruments; Duty Cycle(Max)(%): 100; Frequency(Max)(kHz): 1000; Rating: Catalog; Regulated Outputs(#): 2; Topology: Boost, Flyback, Forward, Full-Bridge, Half-Bridge, Push-Pull; UVLO Thresholds On/Off(V): 9.2/8.4; DatasheetVersion: SLUS557F; PackageVersion: revE, Dec-2002; PackageReference: N16; PackageDescription: 16-Pin Plastic Dual-In-Line Package, Row Spacing 7.62 mm, Pitch 2.54 mm; Supplier 1: Digi-Key; Supplier Part Number 1: 296-15063-5-ND; Supplier 2: Newark; Supplier Part Number 2: 61H5615; Supplier 3: Mouser; Supplier Part Number 3: 595-UC28025N; Control Method: Current; Eco-Plan: Green (RoHS & no Sb/Br); SubFamily: PWM Controller; Mounting Technology: Through Hole; Code_JEDEC: MS-001*; ComponentLink1Description: Datasheet; ComponentLink1URL: http://www.ti.com/general/docs/lit/getliterature.tsp?genericPartNumber=UC28025&fileType=pdf
footprint N16 (DIP, 16-Leads, Row Spacing 7.62mm, Pitch 2.54mm, Body 19.3x6.4mm)
pins: 1 INV (in) "Inverting input to the error amplifier.", 2 NI (in) "Non-inverting input to the error amplifier.", 3 EAOUT (out) "Output of the error amplifier for compensation.", 4 CLOCK (io) "Output of the internal oscillator.", 5 RT "Timing resistor connection pin for oscillator frequency programming.", 6 CT "Timing capacitor connection pin for oscillator frequency programming. Thetiming capacitor should be connected to the device ground using minimal trace length.", 7 RAMP (in) "Non-inverting input to the PWM comparator with 1.25-V internal input offset. In voltage mode operation this serves as the input voltage feed-forward function by using the CT ramp. In peak current mode operation, this serves (See Datasheet)", 8 SS (in) "Soft-start input pin.", 9 ILIM/SD (in) "Input to the current limit comparator and the shutdown comparator.", 10 GND (power) "Analog ground return pin.", 11 OUTA (hiz) "High current totem pole output A of the on-chip drive stage.", 12 PGND (power) "Ground return pin for the output driver stage.", 13 VC (power) "Power supply pin for the output stage. This pin should be bypassed with a 0.1-uF monolithic ceramic low ESL capacitor with minimal trace lengths.", 14 OUTB (hiz) "High current totem pole output B of the on-chip drive stage.", 15 VCC (power) "Power supply pin for the device. This pin should be bypassed with a 0.1-uF monolithic ceramic low ESL capacitor with minimal trace lengths.", 16 VREF (out) "5.1--V reference. For stability, the reference should be bypassed with a 0.1-uFmonolithic ceramic low ESL capacitor and minimal trace length to the ground plane."

## UC28025NG4
designator U?
Economy High-Speed PWM Controller with Current Control, 100 % Duty Cycle, -40 to +105 degC, 16-pin PDIP (N), Green (RoHS & no Sb/Br); PartNumber: UC28025NG4; Manufacturer: Texas Instruments; Duty Cycle(Max)(%): 100; Frequency(Max)(kHz): 1000; Rating: Catalog; Regulated Outputs(#): 2; Topology: Boost, Flyback, Forward, Full-Bridge, Half-Bridge, Push-Pull; UVLO Thresholds On/Off(V): 9.2/8.4; DatasheetVersion: SLUS557F; PackageVersion: revE, Dec-2002; PackageReference: N16; PackageDescription: 16-Pin Plastic Dual-In-Line Package, Row Spacing 7.62 mm, Pitch 2.54 mm; Supplier 1: Digi-Key; Supplier Part Number 1: UC28025NG4-ND; Supplier 2: Newark; Supplier Part Number 2: 80K3526; Supplier 3: Mouser; Supplier Part Number 3: 595-UC28025NG4; Control Method: Current; Eco-Plan: Green (RoHS & no Sb/Br); SubFamily: PWM Controller; Mounting Technology: Through Hole; Code_JEDEC: MS-001*; ComponentLink1Description: Datasheet; ComponentLink1URL: http://www.ti.com/general/docs/lit/getliterature.tsp?genericPartNumber=UC28025&fileType=pdf
footprint N16 (DIP, 16-Leads, Row Spacing 7.62mm, Pitch 2.54mm, Body 19.3x6.4mm)
pins: 1 INV (in) "Inverting input to the error amplifier.", 2 NI (in) "Non-inverting input to the error amplifier.", 3 EAOUT (out) "Output of the error amplifier for compensation.", 4 CLOCK (io) "Output of the internal oscillator.", 5 RT "Timing resistor connection pin for oscillator frequency programming.", 6 CT "Timing capacitor connection pin for oscillator frequency programming. Thetiming capacitor should be connected to the device ground using minimal trace length.", 7 RAMP (in) "Non-inverting input to the PWM comparator with 1.25-V internal input offset. In voltage mode operation this serves as the input voltage feed-forward function by using the CT ramp. In peak current mode operation, this serves (See Datasheet)", 8 SS (in) "Soft-start input pin.", 9 ILIM/SD (in) "Input to the current limit comparator and the shutdown comparator.", 10 GND (power) "Analog ground return pin.", 11 OUTA (hiz) "High current totem pole output A of the on-chip drive stage.", 12 PGND (power) "Ground return pin for the output driver stage.", 13 VC (power) "Power supply pin for the output stage. This pin should be bypassed with a 0.1-uF monolithic ceramic low ESL capacitor with minimal trace lengths.", 14 OUTB (hiz) "High current totem pole output B of the on-chip drive stage.", 15 VCC (power) "Power supply pin for the device. This pin should be bypassed with a 0.1-uF monolithic ceramic low ESL capacitor with minimal trace lengths.", 16 VREF (out) "5.1--V reference. For stability, the reference should be bypassed with a 0.1-uFmonolithic ceramic low ESL capacitor and minimal trace length to the ground plane."

## UCC28C43MDREP
designator U?
BiCMOS Low-Power Current-Mode PWM Controller, -55 to +125 degC, 8-pin SOIC (D), Green (RoHS & no Sb/Br); PartNumber: UCC28C43MDREP; Manufacturer: Texas Instruments; Rating: HiRel Enhanced Product; DatasheetVersion: SGLS352B; PackageVersion: revM, Jun-2011; PackageReference: D8; PackageDescription: 8-Pin Plastic Small Outline Integrated Circuit, 4.9 x 3.9 mm, Pitch 1.27 mm Pitch; Supplier 1: Digi-Key; Supplier Part Number 1: 296-22538-2-ND; Supplier 2: Digi-Key; Supplier Part Number 2: 296-22538-1-ND; Supplier 3: Digi-Key; Supplier Part Number 3: 296-22538-6-ND; Supplier 4: Newark; Supplier Part Number 4: 46M1372; Supplier 5: Mouser; Supplier Part Number 5: 595-UCC28C43MDREP; Eco-Plan: Green (RoHS & no Sb/Br); SubFamily: PWM Controller; Mounting Technology: Surface Mount; Code_JEDEC: MS-012AA; ComponentLink1Description: Datasheet; ComponentLink1URL: http://www.ti.com/general/docs/lit/getliterature.tsp?genericPartNumber=UCC28C43-EP&fileType=pdf
footprint D8_N (SOIC, 8-Leads, Body 4.9x3.9mm, Pitch 1.27mm, IPC Medium Density)
footprint D8_L (SOIC, 8-Leads, Body 4.9x3.9mm, Pitch 1.27mm, IPC High Density)
footprint D8_M (SOIC, 8-Leads, Body 4.9x3.9mm, Pitch 1.27mm, IPC Low Density)
pins: 1 COMP, 2 FB (in), 3 CS (in), 4 RT/CT, 5 GND (power), 6 OUT (out), 7 VDD (power), 8 VREF (out)